# Altium schematic symbol library SSQ-103-02-T-S-RA.SchLib: 1 symbol
Pins are listed as number, name and electrical type; pins without a type are passive.

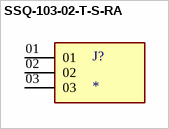
[diagram p0: symbol SSQ-103-02-T-S-RA]

## SSQ-103-02-T-S-RA
designator J?
MP: SSQ-103-02-T-S-RA; MF: {'manufacturer': u'Samtec'}; Price: None; Package: None; Availability: Unavailable; Value: *
footprint SAMTEC_SSQ-103-02-T-S-RA
pins: 01, 02, 03